# Altium schematic symbol library Cap_Panasonic_Electronic_Components_ECQ-E4224KF_eec.SchLib: 1 symbol
Pins are listed as number, name and electrical type; pins without a type are passive.

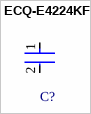
[diagram p0: symbol ECQ-E4224KF]

## ECQ-E4224KF
designator C?  (value not drawn)
pins: 1, 2